# EAGLE library part USB_CON (library library)
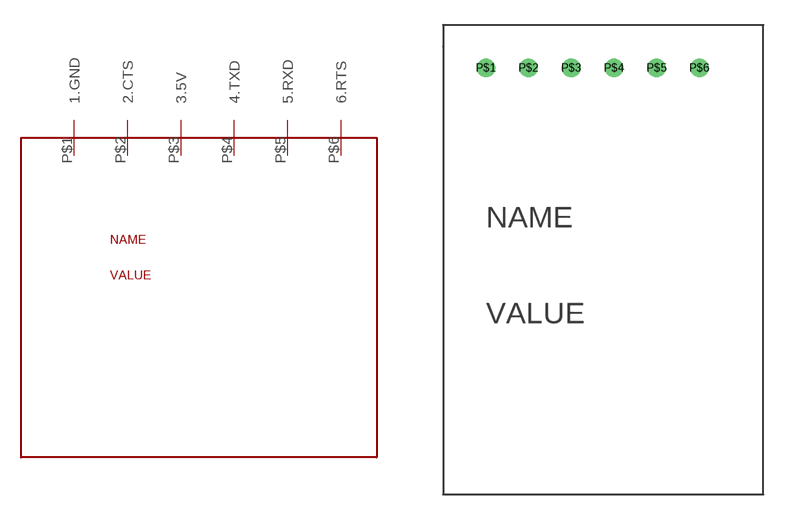
[diagram p11: symbol with the pads of USB_CON; footprint USB_CON]

Designator prefix -

## USB_CON  [USB_CON]
P$1  1.GND
P$2  2.CTS
P$3  3.5V
P$4  4.TXD
P$5  5.RXD
P$6  6.RTS

## Footprint USB_CON (pad centres in mm)
drill 0.6: P$1 -8.89,2.54; P$2 -6.35,2.54; P$3 -3.81,2.54; P$4 -1.27,2.54; P$5 1.27,2.54; P$6 3.81,2.54